# Altium schematic symbol library Iot_switch.SCHLIB: 40 symbols
Pins are listed as number, name and electrical type; pins without a type are passive.

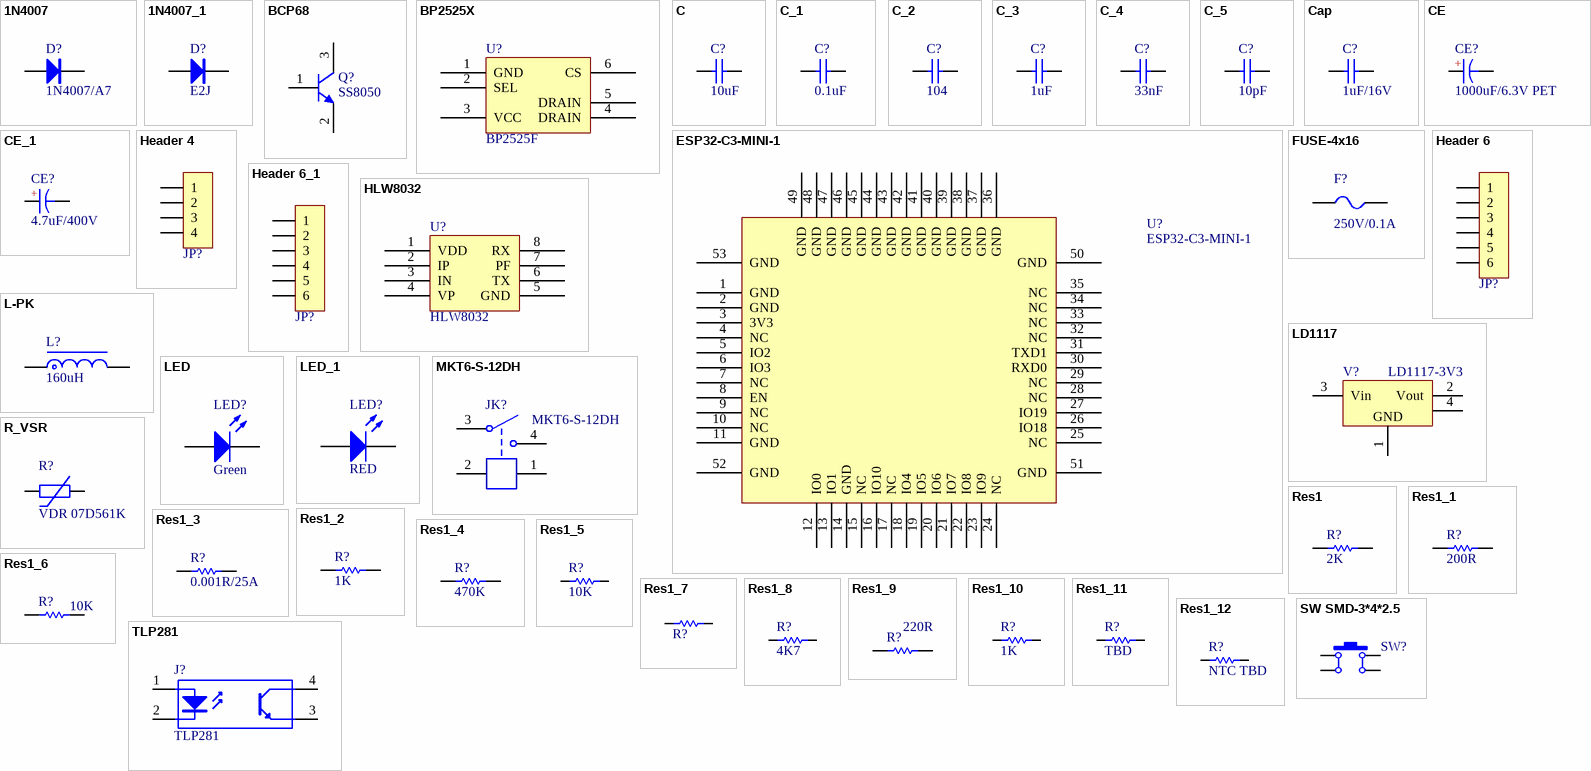
[diagram p0: symbols 1N4007 to TLP281]

## 1N4007
designator D?, comment 1N4007/A7
整流二极管; BOM名称: 整流二极管
footprint SOD-123 (2.7x1.6X1.1mm（长宽高，不包括引脚）)
footprint SMA (4.5x2.6*2.2mm（长宽高，不包括引脚）)
footprint DO-41V (2.6*3.5mm(直径，脚距）)
footprint DO-41 (2.6*9.1mm(直径，脚距）)
pins: 1 A, 2 K

## 1N4007_1
designator D?, comment E2J
整流二极管; BOM名称: 整流二极管
footprint SOD-123 (2.7x1.6X1.1mm（长宽高，不包括引脚）)
footprint SMA (4.5x2.6*2.2mm（长宽高，不包括引脚）)
footprint DO-41V (2.6*3.5mm(直径，脚距）)
footprint DO-41 (2.6*9.1mm(直径，脚距）)
pins: 1 A, 2 K

## BCP68
designator Q?, comment SS8050
NPN三极管
footprint SOT23-3M (SOT23, 3-Leads, Body 2.9x1.3mm, Pitch 0.95mm, Lead Span 2.4mm, IPC Low Density)
pins: 1 B, 2 E, 3 C

## BP2525X
designator U?, comment BP2525F
footprint SOT33-5
pins: 1 GND, 2 SEL, 3 VCC, 4 DRAIN, 5 DRAIN, 6 CS

## C
designator C?, comment 10uF
贴片电容/MLCC电容; BOM名称: 无极性贴片电容
footprint C0201_L (贴片MLCC电容)
footprint C0402_L (贴片MLCC电容)
footprint C0603_L (贴片MLCC电容)
footprint C0805_L (贴片MLCC电容)
footprint C1206_L (贴片MLCC电容)
footprint C1210_L (贴片MLCC电容)
footprint C1808_L (贴片MLCC电容)
footprint C1812_L (贴片MLCC电容                  联系卖家 免费查找封装)
footprint C1825_L (贴片MLCC电容)
footprint C2225_L (贴片MLCC电容)
footprint C0201_M (贴片MLCC电容)
footprint C0402_M (贴片MLCC电容)
footprint C0603_M (贴片MLCC电容)
footprint C0805_M (贴片MLCC电容)
footprint C1206_M (贴片MLCC电容)
footprint C1210_M (贴片MLCC电容)
footprint C1808_M (贴片MLCC电容)
footprint C1812_M (贴片MLCC电容)
footprint C1825_M (贴片MLCC电容      联系卖家 免费查找封装)
footprint C2225_M (贴片MLCC电容)
footprint C0201_S (贴片MLCC电容-无丝印)
footprint C0402_NS (贴片MLCC电容-无丝印)
footprint C01005_S (贴片MLCC电容-无丝印)
footprint C0805_S (贴片MLCC电容-无丝印)
footprint C1206_S (贴片MLCC电容-无丝印)
footprint C1210_S (贴片MLCC电容 -无丝印)
footprint C0603_S (贴片MLCC电容-无丝印)
footprint C0204_S (贴片MLCC电容-无丝印)
footprint C1111_S (贴片MLCC电容-无丝印)
footprint C2220 (贴片MLCC电容)
footprint C3838 (贴片MLCC电容-无丝印)
pins: 1, 2

## C_1
designator C?, comment 0.1uF
贴片电容/MLCC电容; BOM名称: 无极性贴片电容
footprint C0201_L (贴片MLCC电容)
footprint C0402_L (贴片MLCC电容)
footprint C0603_L (贴片MLCC电容)
footprint C0805_L (贴片MLCC电容)
footprint C1206_L (贴片MLCC电容)
footprint C1210_L (贴片MLCC电容)
footprint C1808_L (贴片MLCC电容)
footprint C1812_L (贴片MLCC电容                  联系卖家 免费查找封装)
footprint C1825_L (贴片MLCC电容)
footprint C2225_L (贴片MLCC电容)
footprint C0201_M (贴片MLCC电容)
footprint C0402_M (贴片MLCC电容)
footprint C0603_M (贴片MLCC电容)
footprint C0805_M (贴片MLCC电容)
footprint C1206_M (贴片MLCC电容)
footprint C1210_M (贴片MLCC电容)
footprint C1808_M (贴片MLCC电容)
footprint C1812_M (贴片MLCC电容)
footprint C1825_M (贴片MLCC电容      联系卖家 免费查找封装)
footprint C2225_M (贴片MLCC电容)
footprint C0201_S (贴片MLCC电容-无丝印)
footprint C0402_NS (贴片MLCC电容-无丝印)
footprint C01005_S (贴片MLCC电容-无丝印)
footprint C0805_S (贴片MLCC电容-无丝印)
footprint C1206_S (贴片MLCC电容-无丝印)
footprint C1210_S (贴片MLCC电容 -无丝印)
footprint C0603_S (贴片MLCC电容-无丝印)
footprint C0204_S (贴片MLCC电容-无丝印)
footprint C1111_S (贴片MLCC电容-无丝印)
footprint C2220 (贴片MLCC电容)
footprint C3838 (贴片MLCC电容-无丝印)
pins: 1, 2

## C_2
designator C?, comment 104
贴片电容/MLCC电容; BOM名称: 无极性贴片电容
footprint C0201_L (贴片MLCC电容)
footprint C0402_L (贴片MLCC电容)
footprint C0603_L (贴片MLCC电容)
footprint C0805_L (贴片MLCC电容)
footprint C1206_L (贴片MLCC电容)
footprint C1210_L (贴片MLCC电容)
footprint C1808_L (贴片MLCC电容)
footprint C1812_L (贴片MLCC电容                  联系卖家 免费查找封装)
footprint C1825_L (贴片MLCC电容)
footprint C2225_L (贴片MLCC电容)
footprint C0201_M (贴片MLCC电容)
footprint C0402_M (贴片MLCC电容)
footprint C0603_M (贴片MLCC电容)
footprint C0805_M (贴片MLCC电容)
footprint C1206_M (贴片MLCC电容)
footprint C1210_M (贴片MLCC电容)
footprint C1808_M (贴片MLCC电容)
footprint C1812_M (贴片MLCC电容)
footprint C1825_M (贴片MLCC电容      联系卖家 免费查找封装)
footprint C2225_M (贴片MLCC电容)
footprint C0201_S (贴片MLCC电容-无丝印)
footprint C0402_NS (贴片MLCC电容-无丝印)
footprint C01005_S (贴片MLCC电容-无丝印)
footprint C0805_S (贴片MLCC电容-无丝印)
footprint C1206_S (贴片MLCC电容-无丝印)
footprint C1210_S (贴片MLCC电容 -无丝印)
footprint C0603_S (贴片MLCC电容-无丝印)
footprint C0204_S (贴片MLCC电容-无丝印)
footprint C1111_S (贴片MLCC电容-无丝印)
footprint C2220 (贴片MLCC电容)
footprint C3838 (贴片MLCC电容-无丝印)
pins: 1, 2

## C_3
designator C?, comment 1uF
贴片电容/MLCC电容; BOM名称: 无极性贴片电容
footprint C0201_L (贴片MLCC电容)
footprint C0402_L (贴片MLCC电容)
footprint C0603_L (贴片MLCC电容)
footprint C0805_L (贴片MLCC电容)
footprint C1206_L (贴片MLCC电容)
footprint C1210_L (贴片MLCC电容)
footprint C1808_L (贴片MLCC电容)
footprint C1812_L (贴片MLCC电容                  联系卖家 免费查找封装)
footprint C1825_L (贴片MLCC电容)
footprint C2225_L (贴片MLCC电容)
footprint C0201_M (贴片MLCC电容)
footprint C0402_M (贴片MLCC电容)
footprint C0603_M (贴片MLCC电容)
footprint C0805_M (贴片MLCC电容)
footprint C1206_M (贴片MLCC电容)
footprint C1210_M (贴片MLCC电容)
footprint C1808_M (贴片MLCC电容)
footprint C1812_M (贴片MLCC电容)
footprint C1825_M (贴片MLCC电容      联系卖家 免费查找封装)
footprint C2225_M (贴片MLCC电容)
footprint C0201_S (贴片MLCC电容-无丝印)
footprint C0402_NS (贴片MLCC电容-无丝印)
footprint C01005_S (贴片MLCC电容-无丝印)
footprint C0805_S (贴片MLCC电容-无丝印)
footprint C1206_S (贴片MLCC电容-无丝印)
footprint C1210_S (贴片MLCC电容 -无丝印)
footprint C0603_S (贴片MLCC电容-无丝印)
footprint C0204_S (贴片MLCC电容-无丝印)
footprint C1111_S (贴片MLCC电容-无丝印)
footprint C2220 (贴片MLCC电容)
footprint C3838 (贴片MLCC电容-无丝印)
pins: 1, 2

## C_4
designator C?, comment 33nF
贴片电容/MLCC电容; BOM名称: 无极性贴片电容
footprint C0201_L (贴片MLCC电容)
footprint C0402_L (贴片MLCC电容)
footprint C0805_L (贴片MLCC电容)
footprint C0805_L (贴片MLCC电容)
footprint C1206_L (贴片MLCC电容)
footprint C1210_L (贴片MLCC电容)
footprint C1808_L (贴片MLCC电容)
footprint C1812_L (贴片MLCC电容                  联系卖家 免费查找封装)
footprint C1825_L (贴片MLCC电容)
footprint C2225_L (贴片MLCC电容)
footprint C0201_M (贴片MLCC电容)
footprint C0402_M (贴片MLCC电容)
footprint C0603_M (贴片MLCC电容)
footprint C0805_M (贴片MLCC电容)
footprint C1206_M (贴片MLCC电容)
footprint C1210_M (贴片MLCC电容)
footprint C1808_M (贴片MLCC电容)
footprint C1812_M (贴片MLCC电容)
footprint C1825_M (贴片MLCC电容      联系卖家 免费查找封装)
footprint C2225_M (贴片MLCC电容)
footprint C0201_S (贴片MLCC电容-无丝印)
footprint C0402_NS (贴片MLCC电容-无丝印)
footprint C01005_S (贴片MLCC电容-无丝印)
footprint C0805_S (贴片MLCC电容-无丝印)
footprint C1206_S (贴片MLCC电容-无丝印)
footprint C1210_S (贴片MLCC电容 -无丝印)
footprint C0603_S (贴片MLCC电容-无丝印)
footprint C0204_S (贴片MLCC电容-无丝印)
footprint C1111_S (贴片MLCC电容-无丝印)
footprint C2220 (贴片MLCC电容)
footprint C3838 (贴片MLCC电容-无丝印)
pins: 1, 2

## C_5
designator C?, comment 10pF
贴片电容/MLCC电容; BOM名称: 无极性贴片电容
footprint C0201_L (贴片MLCC电容)
footprint C0402_L (贴片MLCC电容)
footprint C0603_L (贴片MLCC电容)
footprint C0805_L (贴片MLCC电容)
footprint C1206_L (贴片MLCC电容)
footprint C1210_L (贴片MLCC电容)
footprint C1808_L (贴片MLCC电容)
footprint C1812_L (贴片MLCC电容                  联系卖家 免费查找封装)
footprint C1825_L (贴片MLCC电容)
footprint C2225_L (贴片MLCC电容)
footprint C0201_M (贴片MLCC电容)
footprint C0402_M (贴片MLCC电容)
footprint C0603_M (贴片MLCC电容)
footprint C0805_M (贴片MLCC电容)
footprint C1206_M (贴片MLCC电容)
footprint C1210_M (贴片MLCC电容)
footprint C1808_M (贴片MLCC电容)
footprint C1812_M (贴片MLCC电容)
footprint C1825_M (贴片MLCC电容      联系卖家 免费查找封装)
footprint C2225_M (贴片MLCC电容)
footprint C0201_S (贴片MLCC电容-无丝印)
footprint C0402_NS (贴片MLCC电容-无丝印)
footprint C01005_S (贴片MLCC电容-无丝印)
footprint C0805_S (贴片MLCC电容-无丝印)
footprint C1206_S (贴片MLCC电容-无丝印)
footprint C1210_S (贴片MLCC电容 -无丝印)
footprint C0603_S (贴片MLCC电容-无丝印)
footprint C0204_S (贴片MLCC电容-无丝印)
footprint C1111_S (贴片MLCC电容-无丝印)
footprint C2220 (贴片MLCC电容)
footprint C3838 (贴片MLCC电容-无丝印)
pins: 1, 2

## Cap
designator C?, comment 1uF/16V
Published: 8-Jun-2000; LatestRevisionDate: 17-Jul-2002; LatestRevisionNote: Re-released for DXP Platform.; PackageReference: RAD-0.3; Publisher: Altium Limited; PackageDescription: Radial Cap, Thru-Hole; 2 Leads; 0.3 in Pin Spacing; Value: 1uF/16V
footprint C0805_L (贴片MLCC电容)
simulation model CAP (Capacitor)
signal-integrity model Cap
pins: 1, 2

## CE
designator CE?, comment 1000uF/6.3V PET
直插电解电容; BOM名称: 直插电解电容
footprint CE-1.5*4*8 (直插电解电容-脚距1.5mm直径4mm高度8mm)
footprint CE-1.5*4*8 - BK (直插电解电容-脚距1.5mm直径4mm高度8mm      联系卖家 免费查找封装)
footprint CE-1.5*4*8 - GD (直插电解电容-脚距1.5mm直径4mm高度8mm)
footprint CE-1.5*4*8-H (直插电解电容-脚距1.5mm直径4mm高度8mm)
footprint CE-1.5*4*8-H - BK (直插电解电容-脚距1.5mm直径4mm高度8mm)
footprint CE-1.5*4*8-H - GD (直插电解电容-脚距1.5mm直径4mm高度8mm         淘宝卖家ID:黄晶宝石)
footprint CE-2.0*5*11 (直插电解电容-脚距2mm直径5mm高度11mm)
footprint CE-2.0*5*11 - BK (直插电解电容-脚距2mm直径5mm高度11mm)
footprint CE-2.0*5*11 - GD (直插电解电容-脚距2mm直径5mm高度11mm)
footprint CE-2.0*5*11-H (直插电解电容-脚距2mm直径5mm高度11mm)
footprint CE-2.0*5*11-H - BK (直插电解电容-脚距2mm直径5mm高度11mm)
footprint CE-2.0*5*11-H - GD (直插电解电容-脚距2mm直径5mm高度11mm         淘宝卖家ID:黄晶宝石)
footprint CE-2.5*5*11 (直插电解电容-脚距2.5mm直径5mm高度11mm)
footprint CE-2.5*5*11 - BK (直插电解电容-脚距2.5mm直径5mm高度11mm)
footprint CE-2.5*5*11 - GD (直插电解电容-脚距2.5mm直径5mm高度11mm)
footprint CE-2.5*5*11-H (直插电解电容-脚距2.5mm直径5mm高度11mm)
footprint CE-2.5*5*11-H - BK (直插电解电容-脚距2.5mm直径5mm高度11mm)
footprint CE-2.5*5*11-H - GD (直插电解电容-脚距2.5mm直径5mm高度11mm)
footprint CE-2.5*6.3*7 (直插电解电容-脚距2.5mm直径6.3mm高度7mm)
footprint CE-2.5*6.3*7 - BK (直插电解电容-脚距2.5mm直径6.3mm高度7mm)
footprint CE-2.5*6.3*7 - GD (直插电解电容-脚距2.5mm直径6.3mm高度7mm)
footprint CE-2.5*6.3*7-H (直插电解电容-脚距2.5mm直径6.3mm高度7mm)
footprint CE-2.5*6.3*7-H - BK (直插电解电容-脚距2.5mm直径6.3mm高度7mm)
footprint CE-2.5*6.3*7-H - GD (直插电解电容-脚距2.5mm直径6.3mm高度7mm         淘宝卖家ID:黄晶宝石)
footprint CE-2.5*6.3*11.2 (直插电解电容-脚距2.5mm直径6.3mm高度11.2mm)
footprint CE-2.5*6.3*11.2 - BK (直插电解电容-脚距2.5mm直径6.3mm高度11.2mm)
footprint CE-2.5*6.3*11.2 - GD (直插电解电容-脚距2.5mm直径6.3mm高度11.2mm)
footprint CE-2.5*6.3*11.2-H (直插电解电容-脚距2.5mm直径6.3mm高度11.2mm         淘宝卖家ID:黄晶宝石)
footprint CE-2.5*6.3*11.2-H - BK (直插电解电容-脚距2.5mm直径6.3mm高度11.2mm)
footprint CE-2.5*6.3*11.2-H - GD (直插电解电容-脚距2.5mm直径6.3mm高度11.2mm)
footprint CE-3.5*8*11.5 (脚距3.5mm直径8mm高度11.5mm                   联系卖家 免费查找封装)
footprint CE-3.5*8*11.5 - BK (脚距3.5mm直径8mm高度11.5mm)
footprint CE-3.5*8*11.5 - GD (脚距3.5mm直径8mm高度11.5mm)
footprint CE-3.5*8*11.5-H (脚距3.5mm直径8mm高度11.5mm)
footprint CE-3.5*8*11.5-H - BK (脚距3.5mm直径8mm高度11.5mm)
footprint CE-3.5*8*11.5-H - GD (脚距3.5mm直径8mm高度11.5mm)
footprint CE-5.0*10*12.5 (脚距5mm直径10mm高度12.5mm         淘宝ID:黄晶宝石)
footprint CE-5.0*10*12.5 - BK (脚距5mm直径10mm高度12.5mm)
footprint CE-5.0*10*12.5 - GD (脚距5mm直径10mm高度12.5mm)
footprint CE-5.0*10*12.5-H (脚距5mm直径10mm高度12.5mm         淘宝ID:黄晶宝石)
footprint CE-5.0*10*12.5-H - BK (脚距5mm直径10mm高度12.5mm)
footprint CE-5.0*10*12.5-H - GD (脚距5mm直径10mm高度12.5mm                 联系卖家 免费查找封装)
footprint CE-5.0*10*16 (脚距5mm直径10mm高度16mm)
footprint CE-5.0*10*16 - BK (脚距5mm直径10mm高度16mm)
footprint CE-5.0*10*16 - GD (脚距5mm直径10mm高度16mm)
footprint CE-5.0*10*16-H (脚距5mm直径10mm高度16mm)
footprint CE-5.0*10*16-H - BK (脚距5mm直径10mm高度16mm)
footprint CE-5.0*10*16-H - GD (脚距5mm直径10mm高度16mm)
footprint CE-5.0*10*20 (脚距5mm直径10mm高度20mm)
footprint CE-5.0*10*20 - BK (脚距5mm直径10mm高度20mm)
footprint CE-5.0*10*20 - GD (脚距5mm直径10mm高度20mm)
footprint CE-5.0*10*20-H (脚距5mm直径10mm高度20mm)
footprint CE-5.0*10*20-H - BK (脚距5mm直径10mm高度20mm)
footprint CE-5.0*10*20-H - GD (脚距5mm直径10mm高度20mm)
footprint CE-5.0*12.5*20 (脚距5mm直径12.5mm高度20mm)
footprint CE-5.0*12.5*20 - BK (脚距5mm直径12.5mm高度20mm)
footprint CE-5.0*12.5*20 - GD (脚距5mm直径12.5mm高度20mm)
footprint CE-5.0*12.5*20-H (脚距5mm直径12.5mm高度20mm)
footprint CE-5.0*12.5*20-H - BK (脚距5mm直径12.5mm高度20mm                 联系卖家 免费查找封装)
footprint CE-5.0*12.5*20-H - GD (脚距5mm直径12.5mm高度20mm)
footprint CE-5.0*12.5*25 (脚距5mm直径12.5mm高度25mm)
footprint CE-5.0*12.5*25 - BK (脚距5mm直径12.5mm高度25mm)
footprint CE-5.0*12.5*25 - GD (脚距5mm直径12.5mm高度25mm)
footprint CE-5.0*12.5*25-H (脚距5mm直径12.5mm高度25mm)
footprint CE-5.0*12.5*25-H - BK (脚距5mm直径12.5mm高度25mm)
footprint CE-5.0*12.5*25-H - GD (脚距5mm直径12.5mm高度25mm)
footprint CE-7.5*16*25 (脚距7.5mm直径16mm高度25mm)
footprint CE-7.5*16*25 - BK (脚距7.5mm直径16mm高度25mm)
footprint CE-7.5*16*25 - GD (脚距7.5mm直径16mm高度25mm)
footprint CE-7.5*16*25-H (脚距7.5mm直径16mm高度25mm)
footprint CE-7.5*16*25-H - BK (脚距7.5mm直径16mm高度25mm)
footprint CE-7.5*16*25-H - GD (脚距7.5mm直径16mm高度25mm)
footprint CE-7.5*16*31.5 (脚距7.5mm直径16mm高度31.5mm)
footprint CE-7.5*16*31.5 - BK (脚距7.5mm直径16mm高度31.5mm                 联系卖家 免费查找封装)
footprint CE-7.5*16*31.5 - GD (脚距7.5mm直径16mm高度31.5mm                 联系卖家 免费查找封装)
footprint CE-7.5*16*31.5-H (脚距7.5mm直径16mm高度31.5mm)
footprint CE-7.5*16*31.5-H - BK (脚距7.5mm直径16mm高度31.5mm)
footprint CE-7.5*16*31.5-H - GD (脚距7.5mm直径16mm高度31.5mm)
footprint CE-7.5*18*35.5 (直插电解电容-脚距7.5mm直径18mm高度35.5mm)
footprint CE-7.5*18*35.5 - BK (直插电解电容-脚距7.5mm直径18mm高度35.5mm)
footprint CE-7.5*18*35.5 - GD (直插电解电容-脚距7.5mm直径18mm高度35.5mm)
footprint CE-7.5*18*35.5-H (直插电解电容-脚距7.5mm直径18mm高度35.5mm)
footprint CE-7.5*18*35.5-H - BK (直插电解电容-脚距7.5mm直径18mm高度35.5mm)
footprint CE-7.5*18*35.5-H - GD (直插电解电容-脚距7.5mm直径18mm高度35.5mm)
footprint CE-10*22*31.5 (脚距10mm直径22mm高度31.5mm)
footprint CE-10*22*31.5 - BK (脚距10mm直径22mm高度31.5mm)
footprint CE-10*22*31.5 - GD (脚距10mm直径22mm高度31.5mm)
footprint CE-10*22*40 (脚距10mm直径22mm高度40mm)
footprint CE-10*22*40 - BK (脚距10mm直径22mm高度40mm)
footprint CE-10*22*40 - GD (脚距10mm直径22mm高度40mm)
pins: 1, 2
text: +

## CE_1
designator CE?, comment 4.7uF/400V
直插电解电容; BOM名称: 直插电解电容
footprint CE-1.5*4*8 (直插电解电容-脚距1.5mm直径4mm高度8mm)
footprint CE-1.5*4*8 - BK (直插电解电容-脚距1.5mm直径4mm高度8mm      联系卖家 免费查找封装)
footprint CE-1.5*4*8 - GD (直插电解电容-脚距1.5mm直径4mm高度8mm)
footprint CE-1.5*4*8-H (直插电解电容-脚距1.5mm直径4mm高度8mm)
footprint CE-1.5*4*8-H - BK (直插电解电容-脚距1.5mm直径4mm高度8mm)
footprint CE-1.5*4*8-H - GD (直插电解电容-脚距1.5mm直径4mm高度8mm         淘宝卖家ID:黄晶宝石)
footprint CE-2.0*5*11 (直插电解电容-脚距2mm直径5mm高度11mm)
footprint CE-2.0*5*11 - BK (直插电解电容-脚距2mm直径5mm高度11mm)
footprint CE-2.0*5*11 - GD (直插电解电容-脚距2mm直径5mm高度11mm)
footprint CE-2.0*5*11-H (直插电解电容-脚距2mm直径5mm高度11mm)
footprint CE-2.0*5*11-H - BK (直插电解电容-脚距2mm直径5mm高度11mm)
footprint CE-2.0*5*11-H - GD (直插电解电容-脚距2mm直径5mm高度11mm         淘宝卖家ID:黄晶宝石)
footprint CE-2.5*5*11 (直插电解电容-脚距2.5mm直径5mm高度11mm)
footprint CE-2.5*5*11 - BK (直插电解电容-脚距2.5mm直径5mm高度11mm)
footprint CE-2.5*5*11 - GD (直插电解电容-脚距2.5mm直径5mm高度11mm)
footprint CE-2.5*5*11-H (直插电解电容-脚距2.5mm直径5mm高度11mm)
footprint CE-2.5*5*11-H - BK (直插电解电容-脚距2.5mm直径5mm高度11mm)
footprint CE-2.5*5*11-H - GD (直插电解电容-脚距2.5mm直径5mm高度11mm)
footprint CE-2.5*6.3*7 (直插电解电容-脚距2.5mm直径6.3mm高度7mm)
footprint CE-2.5*6.3*7 - BK (直插电解电容-脚距2.5mm直径6.3mm高度7mm)
footprint CE-2.5*6.3*7 - GD (直插电解电容-脚距2.5mm直径6.3mm高度7mm)
footprint CE-2.5*6.3*7-H (直插电解电容-脚距2.5mm直径6.3mm高度7mm)
footprint CE-2.5*6.3*7-H - BK (直插电解电容-脚距2.5mm直径6.3mm高度7mm)
footprint CE-2.5*6.3*7-H - GD (直插电解电容-脚距2.5mm直径6.3mm高度7mm         淘宝卖家ID:黄晶宝石)
footprint CE-2.5*6.3*11.2 (直插电解电容-脚距2.5mm直径6.3mm高度11.2mm)
footprint CE-2.5*6.3*11.2 - BK (直插电解电容-脚距2.5mm直径6.3mm高度11.2mm)
footprint CE-2.5*6.3*11.2 - GD (直插电解电容-脚距2.5mm直径6.3mm高度11.2mm)
footprint CE-2.5*6.3*11.2-H (直插电解电容-脚距2.5mm直径6.3mm高度11.2mm         淘宝卖家ID:黄晶宝石)
footprint CE-2.5*6.3*11.2-H - BK (直插电解电容-脚距2.5mm直径6.3mm高度11.2mm)
footprint CE-2.5*6.3*11.2-H - GD (直插电解电容-脚距2.5mm直径6.3mm高度11.2mm)
footprint CE-3.5*8*11.5 (脚距3.5mm直径8mm高度11.5mm                   联系卖家 免费查找封装)
footprint CE-3.5*8*11.5 - BK (脚距3.5mm直径8mm高度11.5mm)
footprint CE-3.5*8*11.5 - GD (脚距3.5mm直径8mm高度11.5mm)
footprint CE-3.5*8*11.5-H (脚距3.5mm直径8mm高度11.5mm)
footprint CE-3.5*8*11.5-H - BK (脚距3.5mm直径8mm高度11.5mm)
footprint CE-3.5*8*11.5-H - GD (脚距3.5mm直径8mm高度11.5mm)
footprint CE-5.0*10*12.5 (脚距5mm直径10mm高度12.5mm         淘宝ID:黄晶宝石)
footprint CE-5.0*10*12.5 - BK (脚距5mm直径10mm高度12.5mm)
footprint CE-5.0*10*12.5 - GD (脚距5mm直径10mm高度12.5mm)
footprint CE-5.0*10*12.5-H (脚距5mm直径10mm高度12.5mm         淘宝ID:黄晶宝石)
footprint CE-5.0*10*12.5-H - BK (脚距5mm直径10mm高度12.5mm)
footprint CE-5.0*10*12.5-H - GD (脚距5mm直径10mm高度12.5mm                 联系卖家 免费查找封装)
footprint CE-5.0*10*16 (脚距5mm直径10mm高度16mm)
footprint CE-5.0*10*16 - BK (脚距5mm直径10mm高度16mm)
footprint CE-5.0*10*16 - GD (脚距5mm直径10mm高度16mm)
footprint CE-5.0*10*16-H (脚距5mm直径10mm高度16mm)
footprint CE-5.0*10*16-H - BK (脚距5mm直径10mm高度16mm)
footprint CE-5.0*10*16-H - GD (脚距5mm直径10mm高度16mm)
footprint CE-5.0*10*20 (脚距5mm直径10mm高度20mm)
footprint CE-5.0*10*20 - BK (脚距5mm直径10mm高度20mm)
footprint CE-5.0*10*20 - GD (脚距5mm直径10mm高度20mm)
footprint CE-5.0*10*20-H (脚距5mm直径10mm高度20mm)
footprint CE-5.0*10*20-H - BK (脚距5mm直径10mm高度20mm)
footprint CE-5.0*10*20-H - GD (脚距5mm直径10mm高度20mm)
footprint CE-5.0*12.5*20 (脚距5mm直径12.5mm高度20mm)
footprint CE-5.0*12.5*20 - BK (脚距5mm直径12.5mm高度20mm)
footprint CE-5.0*12.5*20 - GD (脚距5mm直径12.5mm高度20mm)
footprint CE-5.0*12.5*20-H (脚距5mm直径12.5mm高度20mm)
footprint CE-5.0*12.5*20-H - BK (脚距5mm直径12.5mm高度20mm                 联系卖家 免费查找封装)
footprint CE-5.0*12.5*20-H - GD (脚距5mm直径12.5mm高度20mm)
footprint CE-5.0*12.5*25 (脚距5mm直径12.5mm高度25mm)
footprint CE-5.0*12.5*25 - BK (脚距5mm直径12.5mm高度25mm)
footprint CE-5.0*12.5*25 - GD (脚距5mm直径12.5mm高度25mm)
footprint CE-5.0*12.5*25-H (脚距5mm直径12.5mm高度25mm)
footprint CE-5.0*12.5*25-H - BK (脚距5mm直径12.5mm高度25mm)
footprint CE-5.0*12.5*25-H - GD (脚距5mm直径12.5mm高度25mm)
footprint CE-7.5*16*25 (脚距7.5mm直径16mm高度25mm)
footprint CE-7.5*16*25 - BK (脚距7.5mm直径16mm高度25mm)
footprint CE-7.5*16*25 - GD (脚距7.5mm直径16mm高度25mm)
footprint CE-7.5*16*25-H (脚距7.5mm直径16mm高度25mm)
footprint CE-7.5*16*25-H - BK (脚距7.5mm直径16mm高度25mm)
footprint CE-7.5*16*25-H - GD (脚距7.5mm直径16mm高度25mm)
footprint CE-7.5*16*31.5 (脚距7.5mm直径16mm高度31.5mm)
footprint CE-7.5*16*31.5 - BK (脚距7.5mm直径16mm高度31.5mm                 联系卖家 免费查找封装)
footprint CE-7.5*16*31.5 - GD (脚距7.5mm直径16mm高度31.5mm                 联系卖家 免费查找封装)
footprint CE-7.5*16*31.5-H (脚距7.5mm直径16mm高度31.5mm)
footprint CE-7.5*16*31.5-H - BK (脚距7.5mm直径16mm高度31.5mm)
footprint CE-7.5*16*31.5-H - GD (脚距7.5mm直径16mm高度31.5mm)
footprint CE-7.5*18*35.5 (直插电解电容-脚距7.5mm直径18mm高度35.5mm)
footprint CE-7.5*18*35.5 - BK (直插电解电容-脚距7.5mm直径18mm高度35.5mm)
footprint CE-7.5*18*35.5 - GD (直插电解电容-脚距7.5mm直径18mm高度35.5mm)
footprint CE-7.5*18*35.5-H (直插电解电容-脚距7.5mm直径18mm高度35.5mm)
footprint CE-7.5*18*35.5-H - BK (直插电解电容-脚距7.5mm直径18mm高度35.5mm)
footprint CE-7.5*18*35.5-H - GD (直插电解电容-脚距7.5mm直径18mm高度35.5mm)
footprint CE-10*22*31.5 (脚距10mm直径22mm高度31.5mm)
footprint CE-10*22*31.5 - BK (脚距10mm直径22mm高度31.5mm)
footprint CE-10*22*31.5 - GD (脚距10mm直径22mm高度31.5mm)
footprint CE-10*22*40 (脚距10mm直径22mm高度40mm)
footprint CE-10*22*40 - BK (脚距10mm直径22mm高度40mm)
footprint CE-10*22*40 - GD (脚距10mm直径22mm高度40mm)
pins: 1, 2
text: +

## ESP32-C3-MINI-1
designator U?
footprint ESP32-C3-MINI-1
pins: 1 GND, 2 GND, 3 3V3, 4 NC, 5 IO2, 6 IO3, 7 NC, 8 EN, 9 NC, 10 NC, 11 GND, 12 IO0, 13 IO1, 14 GND, 15 NC, 16 IO10, 17 NC, 18 IO4, 19 IO5, 20 IO6, 21 IO7, 22 IO8, 23 IO9, 24 NC, 25 NC, 26 IO18, 27 IO19, 28 NC, 29 NC, 30 RXD0, 31 TXD1, 32 NC, 33 NC, 34 NC, 35 NC, 36 GND, 37 GND, 38 GND, 39 GND, 40 GND, 41 GND, 42 GND, 43 GND, 44 GND, 45 GND, 46 GND, 47 GND, 48 GND, 49 GND, 50 GND, 51 GND, 52 GND, 53 GND

## FUSE-4x16
designator F?, comment 250V/0.1A
4*16保险丝; BOM名称: 4x16保险丝
footprint FUSE 4x16 (4*16mm(直径，脚距）)
footprint FUSE 4x16_V (4*16mm(直径，脚距）         淘宝ID:黄晶宝石)
pins: 1, 2

## Header 4
designator JP?, comment HDR-1X4  (value not drawn)
4P接插件; BOM名称: 4P接插件
footprint XH2.54-W-4P (接插件，4P)
footprint XH2.54-LI-4P (接插件，4P)
footprint HDR2.54-LI-4P (排针，4脚)
footprint HDR2.54-M-LI-4P (排母，4脚)
footprint HDR2.54-WI-4P (弯脚排针，4脚)
footprint HDR2.54-WS-4P (4P卧式贴片排针2.54)
footprint HDR2.54-Y-LI-4P (圆孔排母，4脚)
footprint HDR2.54-M-WT-4P (4P卧式贴片排母2.54)
footprint KF2510-LI-4P (接插件/2A)
footprint XH2.54-WT-4P (长：15mm，宽：8mm，高：6.1mm)
footprint XH2.54-LS-4P (长：15mm，宽：6mm，高：8.3mm)
footprint KF2EDGK-2.54-LI-4P (长：12.06mm，宽：8.1mm，高：10.1mm)
footprint KF2EDGK-2.54-WI-4P (长：12.06mm，宽：10.1mm，高：8.1mm)
pins: 1, 2, 3, 4

## Header 6
designator JP?, comment HDR-1X6  (value not drawn)
6P接插件; BOM名称: 6P接插件
footprint KF2EDGK5.08-LI-6P (立插端子)
footprint KF2EDGK5.08-WI-6P (卧插端子)
footprint KF128-5.08-6P (螺钉式接线端子，脚距5.08mm)
pins: 1, 2, 3, 4, 5, 6

## Header 6_1
designator JP?, comment HDR-1X6  (value not drawn)
6P接插件; BOM名称: 6P接插件
footprint XH2.54-W-6P (接插件，6P)
footprint XH2.54-LI-6P (接插件，6P)
footprint HDR2.54-LI-6P (排针，6脚)
footprint HDR2.54-M-LI-6P (排母，6脚)
footprint HDR2.54-WI-6P (弯脚排针，6脚)
footprint HDR2.54-WS-6P (6P卧式贴片排针2.54)
footprint HDR2.54-Y-LI-6P (圆孔排母，6脚)
footprint HDR2.54-M-WT-6P (6P卧式贴片排母2.54)
footprint KF2510-LI-6P (接插件/2A)
footprint XH2.54-WT-6P (长：20mm，宽：8mm，高：6.1mm)
footprint XH2.54-LS-6P (长：20mm，宽：6mm，高：8.3mm)
footprint KF2EDGK-2.54-LI-6P (长：17.1mm，宽：8.1mm，高：10.1mm)
footprint KF2EDGK-2.54-WI-6P (长：17.1mm，宽：10.1mm，高：8.1mm)
pins: 1, 2, 3, 4, 5, 6

## HLW8032
designator U?
footprint SOP_8
pins: 1 VDD, 2 IP, 3 IN, 4 VP, 5 GND, 6 TX, 7 PF, 8 RX

## L-PK
designator L?, comment 160uH
工字电感; BOM名称: 工字电感
footprint PK0406 (2*5*8mm(脚距，直径，高）)
footprint PK0608 (2.5*7*10mm(脚距，直径，高）)
footprint PK0810 (5*9*12mm(脚距，直径，高）)
footprint PK0912 (6*10*14mm(脚距，直径，高）)
footprint PK1012 (6*11*14mm(脚距，直径，高）)
footprint PK1415 (7.5*15*17mm(脚距，直径，高）)
footprint PK1618 (12.5*17*20mm(脚距，直径，高）)
footprint PK1818 (15*19*20mm(脚距，直径，高）)
pins: 1, 2

## LD1117
designator V?, comment LD1117-3V3
三端稳压芯片; BOM名称: 稳压芯片
footprint SOT223_L (6.4x7x1.6mm(长宽高))
footprint SOT223_M (6.4x7x1.6mm(长宽高))
footprint SOT223_N (6.4x7x1.6mm(长宽高))
pins: 1 GND, 2 Vout, 3 Vin, 4 OUT

## LED
designator LED?, comment Green
贴片LED; BOM名称: 贴片LED
footprint LED0603_W (白色0603LED)
footprint LED0603_R (红色0603LED)
footprint LED0603_B (蓝色0603LED)
footprint LED0603_G (绿色0603LED)
footprint LED0603_Y (黄色0603LED)
footprint LED0805_G (绿色0805LED)
footprint LED0805_R (红色0805LED)
footprint LED0805_B (蓝色0805LED)
footprint LED0805_Y (黄色0805LED)
footprint LED 3528-2Pin (2脚，3528LED)
footprint LED1206_G (绿色1206LED)
footprint LED 5730-V (紫色5730LED)
footprint LED1206_Y (黄色1206LED)
footprint LED0805_W (白色0805LED)
footprint LED1206_B (蓝色1206LED)
footprint LED1206_W (白色1206LED)
footprint LED1206_R (红色1206LED)
footprint LED0402_B (蓝色0402LED)
footprint LED0402_G (绿色0402LED)
footprint LED0402_R (红色0402LED)
footprint LED0402_W (白色0402LED)
footprint LED0402_Y (黄色0402LED)
footprint LED0201 (0201 LED)
pins: 1 A, 2 K

## LED_1
designator LED?, comment RED
贴片LED; BOM名称: 贴片LED
footprint LED0603_W (白色0603LED)
footprint LED0603_R (红色0603LED)
footprint LED0603_B (蓝色0603LED)
footprint LED0603_G (绿色0603LED)
footprint LED0603_Y (黄色0603LED)
footprint LED0805_G (绿色0805LED)
footprint LED0805_R (红色0805LED)
footprint LED0805_B (蓝色0805LED)
footprint LED0805_Y (黄色0805LED)
footprint LED 3528-2Pin (2脚，3528LED)
footprint LED1206_G (绿色1206LED)
footprint LED 5730-V (紫色5730LED)
footprint LED1206_Y (黄色1206LED)
footprint LED0805_W (白色0805LED)
footprint LED1206_B (蓝色1206LED)
footprint LED1206_W (白色1206LED)
footprint LED1206_R (红色1206LED)
footprint LED0402_B (蓝色0402LED)
footprint LED0402_G (绿色0402LED)
footprint LED0402_R (红色0402LED)
footprint LED0402_W (白色0402LED)
footprint LED0402_Y (黄色0402LED)
footprint LED0201 (0201 LED)
pins: 1 A, 2 K

## MKT6-S-12DH
designator JK?
12V一组常开; BOM名称: 12V继电器
footprint MKT6-S-12DH (单刀单投/常开)
pins: 1, 2, 3, 4

## R_VSR
designator R?, comment VDR 07D561K
压敏电阻; BOM名称: 压敏电阻
footprint VDR 9D-4.5 (压敏电阻9mm*4.5mm(直径*厚度）)
pins: 1, 2

## Res1
designator R?, comment 2K
Resistor; Published: 8-Jun-2000; LatestRevisionDate: 17-Jul-2002; LatestRevisionNote: Re-released for DXP Platform.; PackageReference: AXIAL-0.3; Publisher: Altium Limited; PackageDescription: Axial Device, Thru-Hole; 2 Leads; 0.3 in Pin Spacing; Value: 2K
footprint R0603_L (1/10W贴片电阻)
simulation model RESISTOR (Resistor)
signal-integrity model Res
pins: 1, 2

## Res1_1
designator R?, comment 200R
Resistor; Published: 8-Jun-2000; LatestRevisionDate: 17-Jul-2002; LatestRevisionNote: Re-released for DXP Platform.; PackageReference: AXIAL-0.3; Publisher: Altium Limited; PackageDescription: Axial Device, Thru-Hole; 2 Leads; 0.3 in Pin Spacing; Value: 200R
footprint R0603_L (1/10W贴片电阻)
simulation model RESISTOR (Resistor)
signal-integrity model Res
pins: 1, 2

## Res1_2
designator R?, comment 1K
Resistor; Published: 8-Jun-2000; LatestRevisionDate: 17-Jul-2002; LatestRevisionNote: Re-released for DXP Platform.; PackageReference: AXIAL-0.3; Publisher: Altium Limited; PackageDescription: Axial Device, Thru-Hole; 2 Leads; 0.3 in Pin Spacing; Value: 1K
footprint R0603_L (1/10W贴片电阻)
simulation model RESISTOR (Resistor)
signal-integrity model Res
pins: 1, 2

## Res1_3
designator R?, comment 0.001R/25A
Resistor; Published: 8-Jun-2000; LatestRevisionDate: 17-Jul-2002; LatestRevisionNote: Re-released for DXP Platform.; PackageReference: AXIAL-0.3; Publisher: Altium Limited; PackageDescription: Axial Device, Thru-Hole; 2 Leads; 0.3 in Pin Spacing; Value: 0.001R/25A
footprint R2512_L (1W贴片电阻                       联系卖家 免费人工查找封装)
simulation model RESISTOR (Resistor)
signal-integrity model Res
pins: 1, 2

## Res1_4
designator R?, comment 470K
Resistor; Published: 8-Jun-2000; LatestRevisionDate: 17-Jul-2002; LatestRevisionNote: Re-released for DXP Platform.; PackageReference: AXIAL-0.3; Publisher: Altium Limited; PackageDescription: Axial Device, Thru-Hole; 2 Leads; 0.3 in Pin Spacing; Value: 470K
footprint R0805_L (1/8W贴片电阻)
simulation model RESISTOR (Resistor)
signal-integrity model Res
pins: 1, 2

## Res1_5
designator R?, comment 10K
贴片电阻; Published: 8-Jun-2000; LatestRevisionDate: 17-Jul-2002; LatestRevisionNote: Re-released for DXP Platform.; PackageReference: AXIAL-0.4; Publisher: Altium Limited; Value: 10K
footprint 0805-2 (贴片无丝印)
footprint 0805-1 (贴片带丝印)
footprint 0402 - duplicate (Chip Capacitor, Body 1.0x0.5mm, IPC High Density)
footprint 1210 (贴片元件)
footprint 2010 (贴片电阻)
footprint R0603_L (1/10W贴片电阻)
footprint 1206
footprint 2512 (保险丝)
footprint 1812 (保险丝)
footprint 0603-1-HF (贴片带丝印)
pins: 1 TOP, 2 BOT

## Res1_6
designator R?, comment 10K
Resistor; Published: 8-Jun-2000; LatestRevisionDate: 17-Jul-2002; LatestRevisionNote: Re-released for DXP Platform.; PackageReference: AXIAL-0.3; Publisher: Altium Limited; PackageDescription: Axial Device, Thru-Hole; 2 Leads; 0.3 in Pin Spacing; Value: 10K
footprint AXIAL-0.3 (Axial Device, Thru-Hole; 2 Leads; 0.3 in Pin Spacing)
simulation model RESISTOR (Resistor)
signal-integrity model Res
footprint R0603_L (1/10W贴片电阻)
pins: 1, 2

## Res1_7
designator R?, comment 4K7  (value not drawn)
贴片电阻; Published: 8-Jun-2000; LatestRevisionDate: 17-Jul-2002; LatestRevisionNote: Re-released for DXP Platform.; PackageReference: AXIAL-0.4; Publisher: Altium Limited; Value: 4K7
footprint 0805-2 (贴片无丝印)
footprint 0805-1 (贴片带丝印)
footprint R0603_L (1/10W贴片电阻)
footprint 1210 (贴片元件)
footprint 2010 (贴片电阻)
footprint 0603-2 (贴片无丝印)
footprint 1206
footprint 2512 (保险丝)
footprint 1812 (保险丝)
footprint 0603-1-HF (贴片带丝印)
pins: 1 TOP, 2 BOT

## Res1_8
designator R?, comment 4K7
贴片电阻; Published: 8-Jun-2000; LatestRevisionDate: 17-Jul-2002; LatestRevisionNote: Re-released for DXP Platform.; PackageReference: AXIAL-0.4; Publisher: Altium Limited
footprint 0805-2 (贴片无丝印)
footprint 0805-1 (贴片带丝印)
footprint R0603_L (1/10W贴片电阻)
footprint 1210 (贴片元件)
footprint 2010 (贴片电阻)
footprint 0603-2 (贴片无丝印)
footprint 1206
footprint 2512 (保险丝)
footprint 1812 (保险丝)
footprint 0603-1-HF (贴片带丝印)
pins: 1 TOP, 2 BOT

## Res1_9
designator R?, comment 220R
Resistor; Published: 8-Jun-2000; LatestRevisionDate: 17-Jul-2002; LatestRevisionNote: Re-released for DXP Platform.; PackageReference: AXIAL-0.3; Publisher: Altium Limited; PackageDescription: Axial Device, Thru-Hole; 2 Leads; 0.3 in Pin Spacing; Value: 220R
footprint R0603_l (1/10W贴片电阻)
simulation model RESISTOR (Resistor)
signal-integrity model Res
pins: 1, 2

## Res1_10
designator R?, comment 1K
贴片电阻; Published: 8-Jun-2000; LatestRevisionDate: 17-Jul-2002; LatestRevisionNote: Re-released for DXP Platform.; PackageReference: AXIAL-0.4; Publisher: Altium Limited; Value: 1K
footprint 0805-2 (贴片无丝印)
footprint 0805-1 (贴片带丝印)
footprint 0402 - duplicate (Chip Capacitor, Body 1.0x0.5mm, IPC High Density)
footprint 1210 (贴片元件)
footprint 2010 (贴片电阻)
footprint 0603-2 (贴片无丝印)
footprint 1206
footprint 2512 (保险丝)
footprint 1812 (保险丝)
footprint R0603_L (1/10W贴片电阻)
pins: 1 TOP, 2 BOT

## Res1_11
designator R?, comment TBD
贴片电阻; Published: 8-Jun-2000; LatestRevisionDate: 17-Jul-2002; LatestRevisionNote: Re-released for DXP Platform.; PackageReference: AXIAL-0.4; Publisher: Altium Limited; Value: TBD
footprint 0805-2 (贴片无丝印)
footprint 0805-1 (贴片带丝印)
footprint R0603_L (1/10W贴片电阻)
footprint 1210 (贴片元件)
footprint 2010 (贴片电阻)
footprint 0603-2 (贴片无丝印)
footprint 1206
footprint 2512 (保险丝)
footprint 1812 (保险丝)
footprint 0603-1-HF (贴片带丝印)
pins: 1 TOP, 2 BOT

## Res1_12
designator R?, comment NTC TBD
贴片电阻; Published: 8-Jun-2000; LatestRevisionDate: 17-Jul-2002; LatestRevisionNote: Re-released for DXP Platform.; PackageReference: AXIAL-0.4; Publisher: Altium Limited; Value: NTC TBD
footprint 0805-2 (贴片无丝印)
footprint 0805-1 (贴片带丝印)
footprint R0603_L (1/10W贴片电阻)
footprint 1210 (贴片元件)
footprint 2010 (贴片电阻)
footprint 0603-2 (贴片无丝印)
footprint 1206
footprint 2512 (保险丝)
footprint 1812 (保险丝)
footprint 0603-1-HF (贴片带丝印)
pins: 1 TOP, 2 BOT

## SW SMD-3*4*2.5
designator SW?, comment 3*4*2.5  (value not drawn)
贴片4脚轻触开关
footprint SW-SMD-4.2x3.2_4P
pins: 1, 2, 3, 4

## TLP281
designator J?
光耦
footprint SOP4 (间距1.27mm     封装库来自淘宝卖家 ID：黄晶宝石)
pins: 1 A "Anode", 2 K "Cathode", 3 E "Emitter", 4 C "Collector"